# Altium schematic symbol library SMAJ7.5CA.SchLib: 1 symbol
Pins are listed as number, name and electrical type; pins without a type are passive.

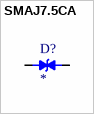
[diagram p0: symbol SMAJ7.5CA]

## SMAJ7.5CA
designator D?
MP: SMAJ7.5CA; Availability: Unavailable; Package: None; Value: *; Price: None
footprint DIOM4325X250N
pins: 1, 2